# EAGLE library part RXX100 (library custom_parts)
Innoline Rxx-100_150B DC/DC converters
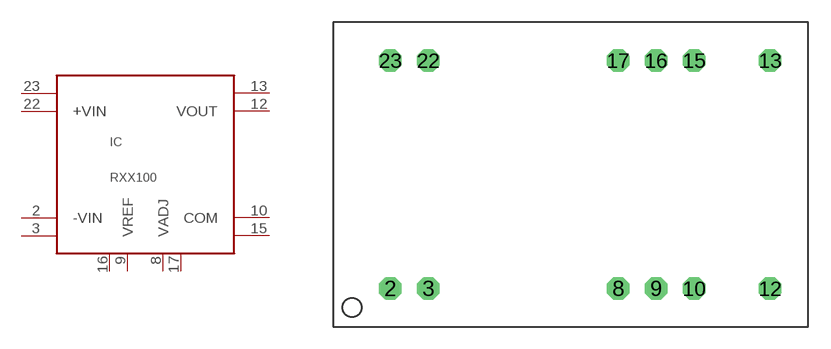
[diagram p19: symbol with the pads of RXXDIP; footprint RXXDIP]

Designator prefix IC

## RXX100  [RXXDIP]
2  -VIN  pwr
3  VIN2-  pwr
8  VADJ  in
9  VREF  out
10  COM  sup
12  VOUT  sup
13  VOUT2  sup
15  COM2  sup
16  VREF2  out
17  VADJ2  in
22  +VIN  pwr
23  VIN2+  pwr

## Footprint RXXDIP (pad centres in mm)
Package for Innoline Rxx series DC-DC converters
drill 1 octagon: 2 -12.7,-7.62; 3 -10.16,-7.62; 8 2.54,-7.62; 9 5.08,-7.62; 10 7.62,-7.62; 12 12.7,-7.62; 13 12.7,7.62; 15 7.62,7.62; 16 5.08,7.62; 17 2.54,7.62; 22 -10.16,7.62; 23 -12.7,7.62